# EAGLE library part STM32F050 (library stm32f0)
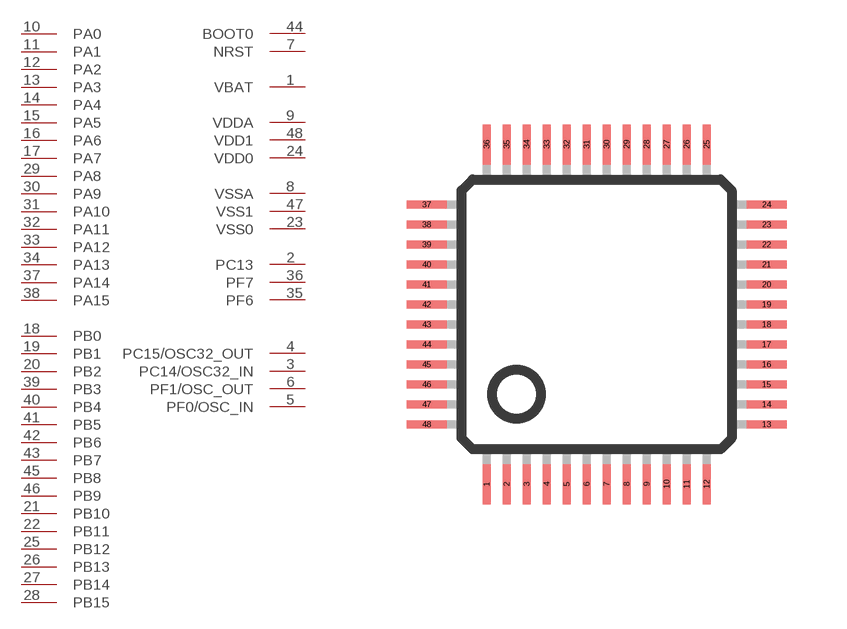
[diagram p0: symbol with the pads of LQFP48; footprint LQFP48]

Designator prefix -; gates G$1=STM32F0_PORTA G$2=STM32F0_PORTB G$3=POWER G$4=OSC

## STM32F050  [LQFP48]
1  G$3:VBAT  pwr
2  G$4:PC13
3  G$4:PC14/OSC32_IN  oc
4  G$4:PC15/OSC32_OUT  oc
5  G$4:PF0/OSC_IN  oc
6  G$4:PF1/OSC_OUT  oc
7  G$3:NRST  in
8  G$3:VSSA  sup
9  G$3:VDDA  pwr
10  G$1:PA0  oc
11  G$1:PA1  oc
12  G$1:PA2  oc
13  G$1:PA3  oc
14  G$1:PA4  oc
15  G$1:PA5  oc
16  G$1:PA6  oc
17  G$1:PA7  oc
18  G$2:PB0  oc
19  G$2:PB1  oc
20  G$2:PB2  oc
21  G$2:PB10  oc
22  G$2:PB11  oc
23  G$3:VSS0  sup
24  G$3:VDD0  pwr
25  G$2:PB12  oc
26  G$2:PB13  oc
27  G$2:PB14  oc
28  G$2:PB15  oc
29  G$1:PA8  oc
30  G$1:PA9  oc
31  G$1:PA10  oc
32  G$1:PA11  oc
33  G$1:PA12  oc
34  G$1:PA13  oc
35  G$4:PF6
36  G$4:PF7
37  G$1:PA14  oc
38  G$1:PA15  oc
39  G$2:PB3  oc
40  G$2:PB4  oc
41  G$2:PB5  oc
42  G$2:PB6  oc
43  G$2:PB7  oc
44  G$3:BOOT0  in
45  G$2:PB8  oc
46  G$2:PB9  oc
47  G$3:VSS1  sup
48  G$3:VDD1  pwr

## Footprint LQFP48 (pad centres in mm)
lqfp48 stm32f050
smd 0.2 x 1: 1 -2.75,-4.25; 2 -2.25,-4.25; 3 -1.75,-4.25; 4 -1.25,-4.25; 5 -0.75,-4.25; 6 -0.25,-4.25; 7 0.25,-4.25; 8 0.75,-4.25; 9 1.25,-4.25; 10 1.75,-4.25; 11 2.25,-4.25; 12 2.75,-4.25; 25 2.75,4.25; 26 2.25,4.25; 27 1.75,4.25; 28 1.25,4.25; 29 0.75,4.25; 30 0.25,4.25; 31 -0.25,4.25; 32 -0.75,4.25; 33 -1.25,4.25; 34 -1.75,4.25; 35 -2.25,4.25; 36 -2.75,4.25
smd 1 x 0.2: 13 4.25,-2.75; 14 4.25,-2.25; 15 4.25,-1.75; 16 4.25,-1.25; 17 4.25,-0.75; 18 4.25,-0.25; 19 4.25,0.25; 20 4.25,0.75; 21 4.25,1.25; 22 4.25,1.75; 23 4.25,2.25; 24 4.25,2.75; 37 -4.25,2.75; 38 -4.25,2.25; 39 -4.25,1.75; 40 -4.25,1.25; 41 -4.25,0.75; 42 -4.25,0.25; 43 -4.25,-0.25; 44 -4.25,-0.75; 45 -4.25,-1.25; 46 -4.25,-1.75; 47 -4.25,-2.25; 48 -4.25,-2.75